# Altium footprint library xilinx-xc18v.PCBLIB: 8 footprints
Each footprint in its own frame and in the unit in brackets; x right, y up, seen from the top. Pads: shape width x height; smd on the part's side, far side on the other; paste and mask are expansions set on the pad; w line width, h text height; cw(c..) or ccw(c..) is an arc to the next point about the centre after c.
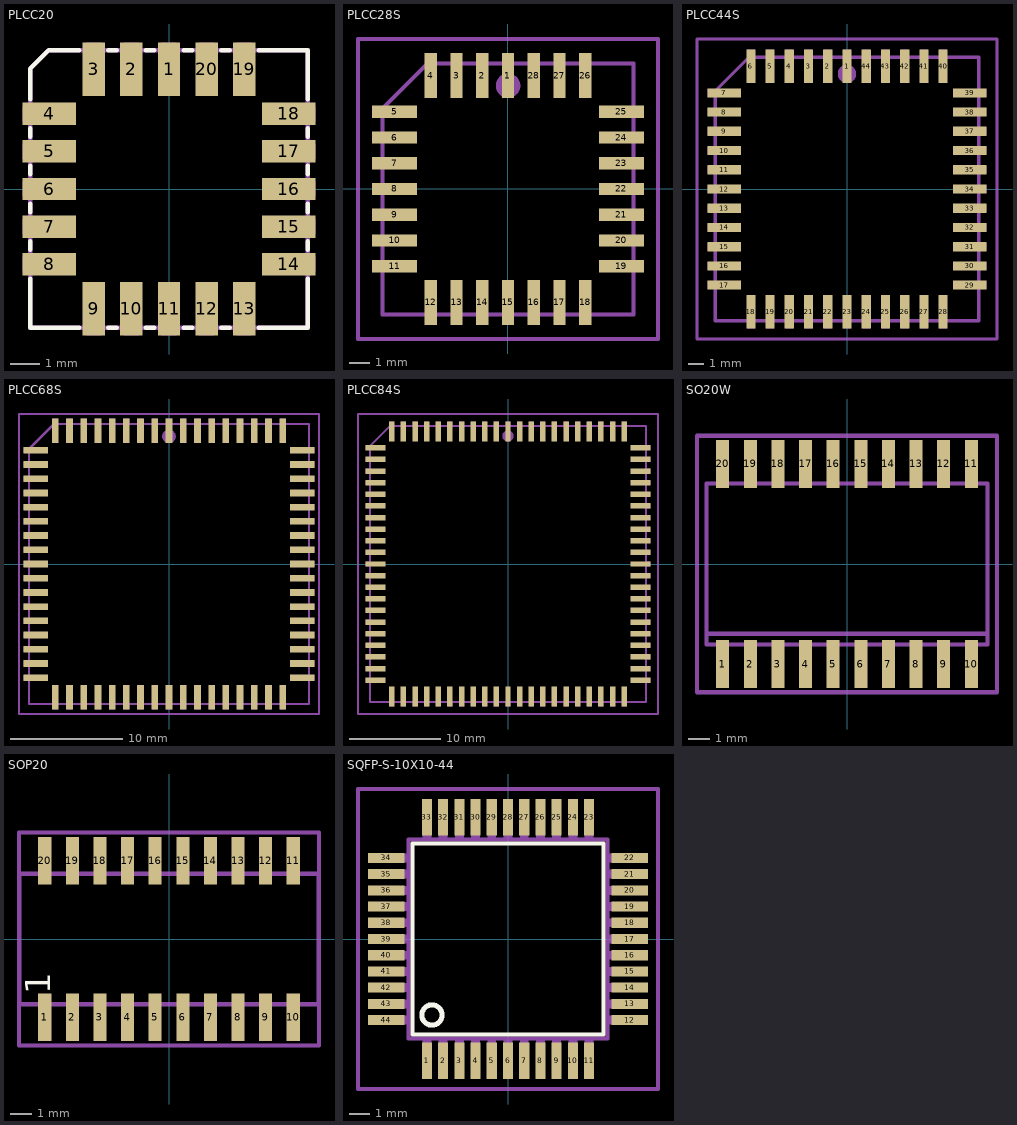
[diagram p0: the footprints below, top view; thin cyan lines are the x and y axes]

## PLCC20 [mil]
pads (20):
  rect 29.92x70.87 smd: 1(0,159.45) 2(-50,159.45) 3(-100,159.45) 9(-100,-159.45) 10(-50,-159.45) 11(0,-159.45) 12(50,-159.45) 13(100,-159.45) 19(100,159.45) 20(50,159.45)
  rect 70.87x29.92 smd: 4(-159.45,100) 5(-159.45,50) 6(-159.45,0) 7(-159.45,-50) 8(-159.45,-100) 14(159.45,-100) 15(159.45,-50) 16(159.45,0) 17(159.45,50) 18(159.45,100)
Top Overlay:
  lines w6: -185.04,-119.33 -185.04,-185.04 -119.33,-185.04 ; -185.04,-80.67 -185.04,-69.33 ; -185.04,-30.67 -185.04,-19.33 ; -185.04,19.33 -185.04,30.67 ; -185.04,69.33 -185.04,80.67 ; -185.04,119.33 -185.04,160.04 -160.04,185.04 -119.33,185.04 ; -80.67,-185.04 -69.33,-185.04 ; -80.67,185.04 -69.33,185.04 ; -30.67,-185.04 -19.33,-185.04 ; -30.67,185.04 -19.33,185.04 ; 19.33,-185.04 30.67,-185.04 ; 19.33,185.04 30.67,185.04 ; 69.33,-185.04 80.67,-185.04 ; 69.33,185.04 80.67,185.04 ; 119.33,-185.04 185.04,-185.04 185.04,-119.33 ; 119.33,185.04 185.04,185.04 185.04,119.33 ; 185.04,-80.67 185.04,-69.33 ; 185.04,-30.67 185.04,-19.33 ; 185.04,19.33 185.04,30.67 ; 185.04,69.33 185.04,80.67
Mechanical 16:
  region: -194.88,109.84 -194.88,90.16 -185.04,90.16 -185.04,109.84
  region: 185.04,109.84 185.04,90.16 194.88,90.16 194.88,109.84
  region: 185.04,59.84 185.04,40.16 194.88,40.16 194.88,59.84
  region: 185.04,9.84 185.04,-9.84 194.88,-9.84 194.88,9.84
  region: 185.04,-40.16 185.04,-59.84 194.88,-59.84 194.88,-40.16
  region: 185.04,-90.16 185.04,-109.84 194.88,-109.84 194.88,-90.16
  region: 185.04,-40.16 185.04,-59.84 194.88,-59.84 194.88,-40.16
  region: 185.04,9.84 185.04,-9.84 194.88,-9.84 194.88,9.84
  region: 90.16,-185.04 90.16,-194.88 109.84,-194.88 109.84,-185.04
  region: 40.16,-185.04 40.16,-194.88 59.84,-194.88 59.84,-185.04
  region: -9.84,-185.04 -9.84,-194.88 9.84,-194.88 9.84,-185.04
  region: -59.84,-185.04 -59.84,-194.88 -40.16,-194.88 -40.16,-185.04
  region: -109.84,-185.04 -109.84,-194.88 -90.16,-194.88 -90.16,-185.04
  region: -194.88,59.84 -194.88,40.16 -185.04,40.16 -185.04,59.84
  region: -194.88,9.84 -194.88,-9.84 -185.04,-9.84 -185.04,9.84
  region: -194.88,-40.16 -194.88,-59.84 -185.04,-59.84 -185.04,-40.16
  region: -194.88,-90.16 -194.88,-109.84 -185.04,-109.84 -185.04,-90.16
  region: 90.16,194.88 90.16,185.04 109.84,185.04 109.84,194.88
  region: 40.16,194.88 40.16,185.04 59.84,185.04 59.84,194.88
  region: -9.84,194.88 -9.84,185.04 9.84,185.04 9.84,194.88
  region: -59.84,194.88 -59.84,185.04 -40.16,185.04 -40.16,194.88
  region: -109.84,194.88 -109.84,185.04 -90.16,185.04 -90.16,194.88
  lines w6: -185.04,-185.04 185.04,-185.04 185.04,185.04 -160.04,185.04 -185.04,160.04 -185.04,-185.04

## PLCC28S [mil]
pads (28):
  rect 23.62x86.61 smd: 1(0,220.47) 2(-50,220.47) 3(-100,220.47) 4(-150,220.47) 12(-150,-220.47) 13(-100,-220.47) 14(-50,-220.47) 15(0,-220.47) 16(50,-220.47) 17(100,-220.47) 18(150,-220.47) 26(150,220.47) 27(100,220.47) 28(50,220.47)
  rect 86.61x23.62 smd: 5(-220.47,150) 6(-220.47,100) 7(-220.47,50) 8(-220.47,0) 9(-220.47,-50) 10(-220.47,-100) 11(-220.47,-150) 19(220.47,-150) 20(220.47,-100) 21(220.47,-50) 22(220.47,0) 23(220.47,50) 24(220.47,100) 25(220.47,150)
Mechanical 16:
  circle w24: c0,200.79 r11.81
  rectangle: -10.24,246.06 10.24,263.78
  rectangle: -60.24,246.06 -39.76,263.78
  rectangle: -110.24,246.06 -89.76,263.78
  rectangle: -160.24,246.06 -139.76,263.78
  rectangle: -263.78,139.76 -246.06,160.24
  rectangle: -263.78,89.76 -246.06,110.24
  rectangle: -263.78,39.76 -246.06,60.24
  rectangle: -263.78,-10.24 -246.06,10.24
  rectangle: -263.78,-60.24 -246.06,-39.76
  rectangle: -263.78,-110.24 -246.06,-89.76
  rectangle: -263.78,-160.24 -246.06,-139.76
  rectangle: -160.24,-263.78 -139.76,-246.06
  rectangle: -110.24,-263.78 -89.76,-246.06
  rectangle: -60.24,-263.78 -39.76,-246.06
  rectangle: -10.24,-263.78 10.24,-246.06
  rectangle: 39.76,-263.78 60.24,-246.06
  rectangle: 89.76,-263.78 110.24,-246.06
  rectangle: 139.76,-263.78 160.24,-246.06
  rectangle: 246.06,-160.24 263.78,-139.76
  rectangle: 246.06,-110.24 263.78,-89.76
  rectangle: 246.06,-60.24 263.78,-39.76
  rectangle: 246.06,-10.24 263.78,10.24
  rectangle: 246.06,39.76 263.78,60.24
  rectangle: 246.06,89.76 263.78,110.24
  rectangle: 246.06,139.76 263.78,160.24
  rectangle: 139.76,246.06 160.24,263.78
  rectangle: 89.76,246.06 110.24,263.78
  rectangle: 39.76,246.06 60.24,263.78
  lines w8: -244.09,-244.09 -244.09,156.1 -156.1,244.09 244.09,244.09 244.09,-244.09 -244.09,-244.09
Mechanical 27:
  lines w7.87: -291.46,-291.46 291.46,-291.46 291.46,291.46 -291.46,291.46 -291.46,-291.46

## PLCC44S [mil]
pads (44):
  rect 23.62x86.61 smd: 1(0,318.9) 2(-50,318.9) 3(-100,318.9) 4(-150,318.9) 5(-200,318.9) 6(-250,318.9) 18(-250,-318.9) 19(-200,-318.9) 20(-150,-318.9) 21(-100,-318.9) 22(-50,-318.9) 23(0,-318.9) 24(50,-318.9) 25(100,-318.9) 26(150,-318.9) 27(200,-318.9) 28(250,-318.9) 40(250,318.9) 41(200,318.9) 42(150,318.9) 43(100,318.9) 44(50,318.9)
  rect 86.61x23.62 smd: 7(-318.9,250) 8(-318.9,200) 9(-318.9,150) 10(-318.9,100) 11(-318.9,50) 12(-318.9,0) 13(-318.9,-50) 14(-318.9,-100) 15(-318.9,-150) 16(-318.9,-200) 17(-318.9,-250) 29(318.9,-250) 30(318.9,-200) 31(318.9,-150) 32(318.9,-100) 33(318.9,-50) 34(318.9,0) 35(318.9,50) 36(318.9,100) 37(318.9,150) 38(318.9,200) 39(318.9,250)
Mechanical 16:
  circle w24: c0,299.21 r11.81
  rectangle: -10.24,344.49 10.24,362.2
  rectangle: -60.24,344.49 -39.76,362.2
  rectangle: -110.24,344.49 -89.76,362.2
  rectangle: -160.24,344.49 -139.76,362.2
  rectangle: -210.24,344.49 -189.76,362.2
  rectangle: -260.24,344.49 -239.76,362.2
  rectangle: -362.2,239.76 -344.49,260.24
  rectangle: -362.2,189.76 -344.49,210.24
  rectangle: -362.2,139.76 -344.49,160.24
  rectangle: -362.2,89.76 -344.49,110.24
  rectangle: -362.2,39.76 -344.49,60.24
  rectangle: -362.2,-10.24 -344.49,10.24
  rectangle: -362.2,-60.24 -344.49,-39.76
  rectangle: -362.2,-110.24 -344.49,-89.76
  rectangle: -362.2,-160.24 -344.49,-139.76
  rectangle: -362.2,-210.24 -344.49,-189.76
  rectangle: -362.2,-260.24 -344.49,-239.76
  rectangle: -260.24,-362.2 -239.76,-344.49
  rectangle: -210.24,-362.2 -189.76,-344.49
  rectangle: -160.24,-362.2 -139.76,-344.49
  rectangle: -110.24,-362.2 -89.76,-344.49
  rectangle: -60.24,-362.2 -39.76,-344.49
  rectangle: -10.24,-362.2 10.24,-344.49
  rectangle: 39.76,-362.2 60.24,-344.49
  rectangle: 89.76,-362.2 110.24,-344.49
  rectangle: 139.76,-362.2 160.24,-344.49
  rectangle: 189.76,-362.2 210.24,-344.49
  rectangle: 239.76,-362.2 260.24,-344.49
  rectangle: 344.49,-260.24 362.2,-239.76
  rectangle: 344.49,-210.24 362.2,-189.76
  rectangle: 344.49,-160.24 362.2,-139.76
  rectangle: 344.49,-110.24 362.2,-89.76
  rectangle: 344.49,-60.24 362.2,-39.76
  rectangle: 344.49,-10.24 362.2,10.24
  rectangle: 344.49,39.76 362.2,60.24
  rectangle: 344.49,89.76 362.2,110.24
  rectangle: 344.49,139.76 362.2,160.24
  rectangle: 344.49,189.76 362.2,210.24
  rectangle: 344.49,239.76 362.2,260.24
  rectangle: 239.76,344.49 260.24,362.2
  rectangle: 189.76,344.49 210.24,362.2
  rectangle: 139.76,344.49 160.24,362.2
  rectangle: 89.76,344.49 110.24,362.2
  rectangle: 39.76,344.49 60.24,362.2
  lines w8: -342.52,-342.52 -342.52,254.53 -254.53,342.52 342.52,342.52 342.52,-342.52 -342.52,-342.52
Mechanical 27:
  lines w7.87: -389.88,-389.88 389.88,-389.88 389.88,389.88 -389.88,389.88 -389.88,-389.88

## PLCC68S [mil]
pads (68):
  rect 23.62x86.61 smd: 1(0,468.5) 2(-50,468.5) 3(-100,468.5) 4(-150,468.5) 5(-200,468.5) 6(-250,468.5) 7(-300,468.5) 8(-350,468.5) 9(-400,468.5) 27(-400,-468.5) 28(-350,-468.5) 29(-300,-468.5) 30(-250,-468.5) 31(-200,-468.5) 32(-150,-468.5) 33(-100,-468.5) 34(-50,-468.5) 35(0,-468.5) 36(50,-468.5) 37(100,-468.5) 38(150,-468.5) 39(200,-468.5) 40(250,-468.5) 41(300,-468.5) 42(350,-468.5) 43(400,-468.5) 61(400,468.5) 62(350,468.5) 63(300,468.5) 64(250,468.5) 65(200,468.5) 66(150,468.5) 67(100,468.5) 68(50,468.5)
  rect 86.61x23.62 smd: 10(-468.5,400) 11(-468.5,350) 12(-468.5,300) 13(-468.5,250) 14(-468.5,200) 15(-468.5,150) 16(-468.5,100) 17(-468.5,50) 18(-468.5,0) 19(-468.5,-50) 20(-468.5,-100) 21(-468.5,-150) 22(-468.5,-200) 23(-468.5,-250) 24(-468.5,-300) 25(-468.5,-350) 26(-468.5,-400) 44(468.5,-400) 45(468.5,-350) 46(468.5,-300) 47(468.5,-250) 48(468.5,-200) 49(468.5,-150) 50(468.5,-100) 51(468.5,-50) 52(468.5,0) 53(468.5,50) 54(468.5,100) 55(468.5,150) 56(468.5,200) 57(468.5,250) 58(468.5,300) 59(468.5,350) 60(468.5,400)
Mechanical 16:
  circle w24: c0,448.82 r11.81
  rectangle: -10.24,494.09 10.24,511.81
  rectangle: -60.24,494.09 -39.76,511.81
  rectangle: -110.24,494.09 -89.76,511.81
  rectangle: -160.24,494.09 -139.76,511.81
  rectangle: -210.24,494.09 -189.76,511.81
  rectangle: -260.24,494.09 -239.76,511.81
  rectangle: -310.24,494.09 -289.76,511.81
  rectangle: -360.24,494.09 -339.76,511.81
  rectangle: -410.24,494.09 -389.76,511.81
  rectangle: -511.81,389.76 -494.09,410.24
  rectangle: -511.81,339.76 -494.09,360.24
  rectangle: -511.81,289.76 -494.09,310.24
  rectangle: -511.81,239.76 -494.09,260.24
  rectangle: -511.81,189.76 -494.09,210.24
  rectangle: -511.81,139.76 -494.09,160.24
  rectangle: -511.81,89.76 -494.09,110.24
  rectangle: -511.81,39.76 -494.09,60.24
  rectangle: -511.81,-10.24 -494.09,10.24
  rectangle: -511.81,-60.24 -494.09,-39.76
  rectangle: -511.81,-110.24 -494.09,-89.76
  rectangle: -511.81,-160.24 -494.09,-139.76
  rectangle: -511.81,-210.24 -494.09,-189.76
  rectangle: -511.81,-260.24 -494.09,-239.76
  rectangle: -511.81,-310.24 -494.09,-289.76
  rectangle: -511.81,-360.24 -494.09,-339.76
  rectangle: -511.81,-410.24 -494.09,-389.76
  rectangle: -410.24,-511.81 -389.76,-494.09
  rectangle: -360.24,-511.81 -339.76,-494.09
  rectangle: -310.24,-511.81 -289.76,-494.09
  rectangle: -260.24,-511.81 -239.76,-494.09
  rectangle: -210.24,-511.81 -189.76,-494.09
  rectangle: -160.24,-511.81 -139.76,-494.09
  rectangle: -110.24,-511.81 -89.76,-494.09
  rectangle: -60.24,-511.81 -39.76,-494.09
  rectangle: -10.24,-511.81 10.24,-494.09
  rectangle: 39.76,-511.81 60.24,-494.09
  rectangle: 89.76,-511.81 110.24,-494.09
  rectangle: 139.76,-511.81 160.24,-494.09
  rectangle: 189.76,-511.81 210.24,-494.09
  rectangle: 239.76,-511.81 260.24,-494.09
  rectangle: 289.76,-511.81 310.24,-494.09
  rectangle: 339.76,-511.81 360.24,-494.09
  rectangle: 389.76,-511.81 410.24,-494.09
  rectangle: 494.09,-410.24 511.81,-389.76
  rectangle: 494.09,-360.24 511.81,-339.76
  rectangle: 494.09,-310.24 511.81,-289.76
  rectangle: 494.09,-260.24 511.81,-239.76
  rectangle: 494.09,-210.24 511.81,-189.76
  rectangle: 494.09,-160.24 511.81,-139.76
  rectangle: 494.09,-110.24 511.81,-89.76
  rectangle: 494.09,-60.24 511.81,-39.76
  rectangle: 494.09,-10.24 511.81,10.24
  rectangle: 494.09,39.76 511.81,60.24
  rectangle: 494.09,89.76 511.81,110.24
  rectangle: 494.09,139.76 511.81,160.24
  rectangle: 494.09,189.76 511.81,210.24
  rectangle: 494.09,239.76 511.81,260.24
  rectangle: 494.09,289.76 511.81,310.24
  rectangle: 494.09,339.76 511.81,360.24
  rectangle: 494.09,389.76 511.81,410.24
  rectangle: 389.76,494.09 410.24,511.81
  rectangle: 339.76,494.09 360.24,511.81
  rectangle: 289.76,494.09 310.24,511.81
  rectangle: 239.76,494.09 260.24,511.81
  rectangle: 189.76,494.09 210.24,511.81
  rectangle: 139.76,494.09 160.24,511.81
  rectangle: 89.76,494.09 110.24,511.81
  rectangle: 39.76,494.09 60.24,511.81
  lines w8: -492.13,-492.13 -492.13,404.13 -404.13,492.13 492.13,492.13 492.13,-492.13 -492.13,-492.13
Mechanical 27:
  lines w7.87: -527.68,-527.68 527.68,-527.68 527.68,527.68 -527.68,527.68 -527.68,-527.68

## PLCC84S [mil]
pads (84):
  rect 23.62x86.61 smd: 1(0,570.87) 2(-50,570.87) 3(-100,570.87) 4(-150,570.87) 5(-200,570.87) 6(-250,570.87) 7(-300,570.87) 8(-350,570.87) 9(-400,570.87) 10(-450,570.87) 11(-500,570.87) 33(-500,-570.87) 34(-450,-570.87) 35(-400,-570.87) 36(-350,-570.87) 37(-300,-570.87) 38(-250,-570.87) 39(-200,-570.87) 40(-150,-570.87) 41(-100,-570.87) 42(-50,-570.87) 43(0,-570.87) 44(50,-570.87) 45(100,-570.87) 46(150,-570.87) 47(200,-570.87) 48(250,-570.87) 49(300,-570.87) 50(350,-570.87) 51(400,-570.87) 52(450,-570.87) 53(500,-570.87) 75(500,570.87) 76(450,570.87) 77(400,570.87) 78(350,570.87) 79(300,570.87) 80(250,570.87) 81(200,570.87) 82(150,570.87) 83(100,570.87) 84(50,570.87)
  rect 86.61x23.62 smd: 12(-570.87,500) 13(-570.87,450) 14(-570.87,400) 15(-570.87,350) 16(-570.87,300) 17(-570.87,250) 18(-570.87,200) 19(-570.87,150) 20(-570.87,100) 21(-570.87,50) 22(-570.87,0) 23(-570.87,-50) 24(-570.87,-100) 25(-570.87,-150) 26(-570.87,-200) 27(-570.87,-250) 28(-570.87,-300) 29(-570.87,-350) 30(-570.87,-400) 31(-570.87,-450) 32(-570.87,-500) 54(570.87,-500) 55(570.87,-450) 56(570.87,-400) 57(570.87,-350) 58(570.87,-300) 59(570.87,-250) 60(570.87,-200) 61(570.87,-150) 62(570.87,-100) 63(570.87,-50) 64(570.87,0) 65(570.87,50) 66(570.87,100) 67(570.87,150) 68(570.87,200) 69(570.87,250) 70(570.87,300) 71(570.87,350) 72(570.87,400) 73(570.87,450) 74(570.87,500)
Mechanical 16:
  circle w24: c0,551.18 r11.81
  rectangle: -10.24,596.46 10.24,614.17
  rectangle: -60.24,596.46 -39.76,614.17
  rectangle: -110.24,596.46 -89.76,614.17
  rectangle: -160.24,596.46 -139.76,614.17
  rectangle: -210.24,596.46 -189.76,614.17
  rectangle: -260.24,596.46 -239.76,614.17
  rectangle: -310.24,596.46 -289.76,614.17
  rectangle: -360.24,596.46 -339.76,614.17
  rectangle: -410.24,596.46 -389.76,614.17
  rectangle: -460.24,596.46 -439.76,614.17
  rectangle: -510.24,596.46 -489.76,614.17
  rectangle: -614.17,489.76 -596.46,510.24
  rectangle: -614.17,439.76 -596.46,460.24
  rectangle: -614.17,389.76 -596.46,410.24
  rectangle: -614.17,339.76 -596.46,360.24
  rectangle: -614.17,289.76 -596.46,310.24
  rectangle: -614.17,239.76 -596.46,260.24
  rectangle: -614.17,189.76 -596.46,210.24
  rectangle: -614.17,139.76 -596.46,160.24
  rectangle: -614.17,89.76 -596.46,110.24
  rectangle: -614.17,39.76 -596.46,60.24
  rectangle: -614.17,-10.24 -596.46,10.24
  rectangle: -614.17,-60.24 -596.46,-39.76
  rectangle: -614.17,-110.24 -596.46,-89.76
  rectangle: -614.17,-160.24 -596.46,-139.76
  rectangle: -614.17,-210.24 -596.46,-189.76
  rectangle: -614.17,-260.24 -596.46,-239.76
  rectangle: -614.17,-310.24 -596.46,-289.76
  rectangle: -614.17,-360.24 -596.46,-339.76
  rectangle: -614.17,-410.24 -596.46,-389.76
  rectangle: -614.17,-460.24 -596.46,-439.76
  rectangle: -614.17,-510.24 -596.46,-489.76
  rectangle: -510.24,-614.17 -489.76,-596.46
  rectangle: -460.24,-614.17 -439.76,-596.46
  rectangle: -410.24,-614.17 -389.76,-596.46
  rectangle: -360.24,-614.17 -339.76,-596.46
  rectangle: -310.24,-614.17 -289.76,-596.46
  rectangle: -260.24,-614.17 -239.76,-596.46
  rectangle: -210.24,-614.17 -189.76,-596.46
  rectangle: -160.24,-614.17 -139.76,-596.46
  rectangle: -110.24,-614.17 -89.76,-596.46
  rectangle: -60.24,-614.17 -39.76,-596.46
  rectangle: -10.24,-614.17 10.24,-596.46
  rectangle: 39.76,-614.17 60.24,-596.46
  rectangle: 89.76,-614.17 110.24,-596.46
  rectangle: 139.76,-614.17 160.24,-596.46
  rectangle: 189.76,-614.17 210.24,-596.46
  rectangle: 239.76,-614.17 260.24,-596.46
  rectangle: 289.76,-614.17 310.24,-596.46
  rectangle: 339.76,-614.17 360.24,-596.46
  rectangle: 389.76,-614.17 410.24,-596.46
  rectangle: 439.76,-614.17 460.24,-596.46
  rectangle: 489.76,-614.17 510.24,-596.46
  rectangle: 596.46,-510.24 614.17,-489.76
  rectangle: 596.46,-460.24 614.17,-439.76
  rectangle: 596.46,-410.24 614.17,-389.76
  rectangle: 596.46,-360.24 614.17,-339.76
  rectangle: 596.46,-310.24 614.17,-289.76
  rectangle: 596.46,-260.24 614.17,-239.76
  rectangle: 596.46,-210.24 614.17,-189.76
  rectangle: 596.46,-160.24 614.17,-139.76
  rectangle: 596.46,-110.24 614.17,-89.76
  rectangle: 596.46,-60.24 614.17,-39.76
  rectangle: 596.46,-10.24 614.17,10.24
  rectangle: 596.46,39.76 614.17,60.24
  rectangle: 596.46,89.76 614.17,110.24
  rectangle: 596.46,139.76 614.17,160.24
  rectangle: 596.46,189.76 614.17,210.24
  rectangle: 596.46,239.76 614.17,260.24
  rectangle: 596.46,289.76 614.17,310.24
  rectangle: 596.46,339.76 614.17,360.24
  rectangle: 596.46,389.76 614.17,410.24
  rectangle: 596.46,439.76 614.17,460.24
  rectangle: 596.46,489.76 614.17,510.24
  rectangle: 489.76,596.46 510.24,614.17
  rectangle: 439.76,596.46 460.24,614.17
  rectangle: 389.76,596.46 410.24,614.17
  rectangle: 339.76,596.46 360.24,614.17
  rectangle: 289.76,596.46 310.24,614.17
  rectangle: 239.76,596.46 260.24,614.17
  rectangle: 189.76,596.46 210.24,614.17
  rectangle: 139.76,596.46 160.24,614.17
  rectangle: 89.76,596.46 110.24,614.17
  rectangle: 39.76,596.46 60.24,614.17
  lines w8: -594.49,-594.49 -594.49,506.5 -506.5,594.49 594.49,594.49 594.49,-594.49 -594.49,-594.49
Mechanical 27:
  lines w7.87: -645.79,-645.79 645.79,-645.79 645.79,645.79 -645.79,645.79 -645.79,-645.79

## SO20W [mil]
pads (20):
  rect 23.62x86.61 smd: 1(-225,-181.1) 2(-175,-181.1) 3(-125,-181.1) 4(-75,-181.1) 5(-25,-181.1) 6(25,-181.1) 7(75,-181.1) 8(125,-181.1) 9(175,-181.1) 10(225,-181.1) 11(225,181.1) 12(175,181.1) 13(125,181.1) 14(75,181.1) 15(25,181.1) 16(-25,181.1) 17(-75,181.1) 18(-125,181.1) 19(-175,181.1) 20(-225,181.1)
Mechanical 16:
  rectangle: -234.65,-209.45 -215.35,-149.61
  rectangle: -184.65,-209.45 -165.35,-149.61
  rectangle: -134.65,-209.45 -115.35,-149.61
  rectangle: -84.65,-209.45 -65.35,-149.61
  rectangle: -34.65,-209.45 -15.35,-149.61
  rectangle: 15.35,-209.45 34.65,-149.61
  rectangle: 65.35,-209.45 84.65,-149.61
  rectangle: 115.35,-209.45 134.65,-149.61
  rectangle: 165.35,-209.45 184.65,-149.61
  rectangle: 215.35,-209.45 234.65,-149.61
  rectangle: 215.35,149.61 234.65,209.45
  rectangle: 165.35,149.61 184.65,209.45
  rectangle: 115.35,149.61 134.65,209.45
  rectangle: 65.35,149.61 84.65,209.45
  rectangle: 15.35,149.61 34.65,209.45
  rectangle: -34.65,149.61 -15.35,209.45
  rectangle: -84.65,149.61 -65.35,209.45
  rectangle: -134.65,149.61 -115.35,209.45
  rectangle: -184.65,149.61 -165.35,209.45
  rectangle: -234.65,149.61 -215.35,209.45
  lines w8: -254.33,-125.98 -254.33,-145.67 254.33,-145.67 254.33,-125.98 ; -254.33,-125.98 -254.33,145.67 254.33,145.67 254.33,-125.98 ; -254.33,-125.98 254.33,-125.98
Mechanical 27:
  lines w7.87: -271.46,-232.28 271.46,-232.28 271.46,232.28 -271.46,232.28 -271.46,-232.28

## SOP20 [mil]
pads (20):
  rect 23.62x86.61 smd: 1(-225,-141.73) 2(-175,-141.73) 3(-125,-141.73) 4(-75,-141.73) 5(-25,-141.73) 6(25,-141.73) 7(75,-141.73) 8(125,-141.73) 9(175,-141.73) 10(225,-141.73) 11(225,141.73) 12(175,141.73) 13(125,141.73) 14(75,141.73) 15(25,141.73) 16(-25,141.73) 17(-75,141.73) 18(-125,141.73) 19(-175,141.73) 20(-225,141.73)
Top Overlay:
  text "1" at -200,-100 h77.5
Mechanical 16:
  rectangle: -234.84,-174.8 -215.16,-122.44
  rectangle: -184.84,-174.8 -165.16,-122.44
  rectangle: -134.84,-174.8 -115.16,-122.44
  rectangle: -84.84,-174.8 -65.16,-122.44
  rectangle: -34.84,-174.8 -15.16,-122.44
  rectangle: 15.16,-174.8 34.84,-122.44
  rectangle: 65.16,-174.8 84.84,-122.44
  rectangle: 115.16,-174.8 134.84,-122.44
  rectangle: 165.16,-174.8 184.84,-122.44
  rectangle: 215.16,-174.8 234.84,-122.44
  rectangle: 215.16,122.44 234.84,174.8
  rectangle: 165.16,122.44 184.84,174.8
  rectangle: 115.16,122.44 134.84,174.8
  rectangle: 65.16,122.44 84.84,174.8
  rectangle: 15.16,122.44 34.84,174.8
  rectangle: -34.84,122.44 -15.16,174.8
  rectangle: -84.84,122.44 -65.16,174.8
  rectangle: -134.84,122.44 -115.16,174.8
  rectangle: -184.84,122.44 -165.16,174.8
  rectangle: -234.84,122.44 -215.16,174.8
  lines w8: -270.87,-118.5 270.87,-118.5 270.87,118.5 -270.87,118.5 -270.87,-118.5
Mechanical 27:
  lines w7.87: -271.65,-192.91 -271.65,192.91 271.65,192.91 271.65,-192.91 -271.65,-192.91

## SQFP-S-10X10-44 [mm]
pads (44):
  rect 0.5x1.8 smd: 1(-4,-6) 2(-3.2,-6) 3(-2.4,-6) 4(-1.6,-6) 5(-0.8,-6) 6(0,-6) 7(0.8,-6) 8(1.6,-6) 9(2.4,-6) 10(3.2,-6) 11(4,-6) 23(4,6) 24(3.2,6) 25(2.4,6) 26(1.6,6) 27(0.8,6) 28(0,6) 29(-0.8,6) 30(-1.6,6) 31(-2.4,6) 32(-3.2,6) 33(-4,6)
  rect 1.8x0.5 smd: 12(6,-4) 13(6,-3.2) 14(6,-2.4) 15(6,-1.6) 16(6,-0.8) 17(6,0) 18(6,0.8) 19(6,1.6) 20(6,2.4) 21(6,3.2) 22(6,4) 34(-6,4) 35(-6,3.2) 36(-6,2.4) 37(-6,1.6) 38(-6,0.8) 39(-6,0) 40(-6,-0.8) 41(-6,-1.6) 42(-6,-2.4) 43(-6,-3.2) 44(-6,-4)
Top Overlay:
  circle w0.254: c-3.75,-3.75 r0.5
  lines w0.203: -4.72,-4.71 4.71,-4.71 4.71,4.71 -4.72,4.71 -4.72,-4.71
Mechanical 16:
  rectangle: -4.22,-6.72 -3.78,-4.95
  rectangle: -3.42,-6.72 -2.98,-4.95
  rectangle: -2.62,-6.72 -2.18,-4.95
  rectangle: -1.82,-6.72 -1.38,-4.95
  rectangle: -1.02,-6.72 -0.58,-4.95
  rectangle: -0.22,-6.72 0.22,-4.95
  rectangle: 0.58,-6.72 1.02,-4.95
  rectangle: 1.38,-6.72 1.82,-4.95
  rectangle: 2.18,-6.72 2.62,-4.95
  rectangle: 2.98,-6.72 3.42,-4.95
  rectangle: 3.78,-6.72 4.22,-4.95
  rectangle: 4.95,-4.22 6.72,-3.78
  rectangle: 4.95,-3.42 6.72,-2.98
  rectangle: 4.95,-2.62 6.72,-2.18
  rectangle: 4.95,-1.82 6.72,-1.38
  rectangle: 4.95,-1.02 6.72,-0.58
  rectangle: 4.95,-0.22 6.72,0.22
  rectangle: 4.95,0.58 6.72,1.02
  rectangle: 4.95,1.38 6.72,1.82
  rectangle: 4.95,2.18 6.72,2.62
  rectangle: 4.95,2.98 6.72,3.42
  rectangle: 4.95,3.78 6.72,4.22
  rectangle: 3.78,4.95 4.22,6.72
  rectangle: 2.98,4.95 3.42,6.72
  rectangle: 2.18,4.95 2.62,6.72
  rectangle: 1.38,4.95 1.82,6.72
  rectangle: 0.58,4.95 1.02,6.72
  rectangle: -0.22,4.95 0.22,6.72
  rectangle: -1.02,4.95 -0.58,6.72
  rectangle: -1.82,4.95 -1.38,6.72
  rectangle: -2.62,4.95 -2.18,6.72
  rectangle: -3.42,4.95 -2.98,6.72
  rectangle: -4.22,4.95 -3.78,6.72
  rectangle: -6.72,3.78 -4.95,4.22
  rectangle: -6.72,2.98 -4.95,3.42
  rectangle: -6.72,2.18 -4.95,2.62
  rectangle: -6.72,1.38 -4.95,1.82
  rectangle: -6.72,0.58 -4.95,1.02
  rectangle: -6.72,-0.22 -4.95,0.22
  rectangle: -6.72,-1.02 -4.95,-0.58
  rectangle: -6.72,-1.82 -4.95,-1.38
  rectangle: -6.72,-2.62 -4.95,-2.18
  rectangle: -6.72,-3.42 -4.95,-2.98
  rectangle: -6.72,-4.22 -4.95,-3.78
  lines w0.203: -4.91,-4.91 4.91,-4.91 4.91,4.91 -4.91,4.91 -4.91,-4.91
Mechanical 27:
  lines w0.2: -7.4,-7.4 -7.4,7.4 7.4,7.4 7.4,-7.4 -7.4,-7.4